# Altium footprint library Jammer.PcbLib: 13 footprints
Each footprint in its own frame and in the unit in brackets; x right, y up, seen from the top. Pads: shape width x height; smd on the part's side, far side on the other; paste and mask are expansions set on the pad; w line width, h text height; cw(c..) or ccw(c..) is an arc to the next point about the centre after c.
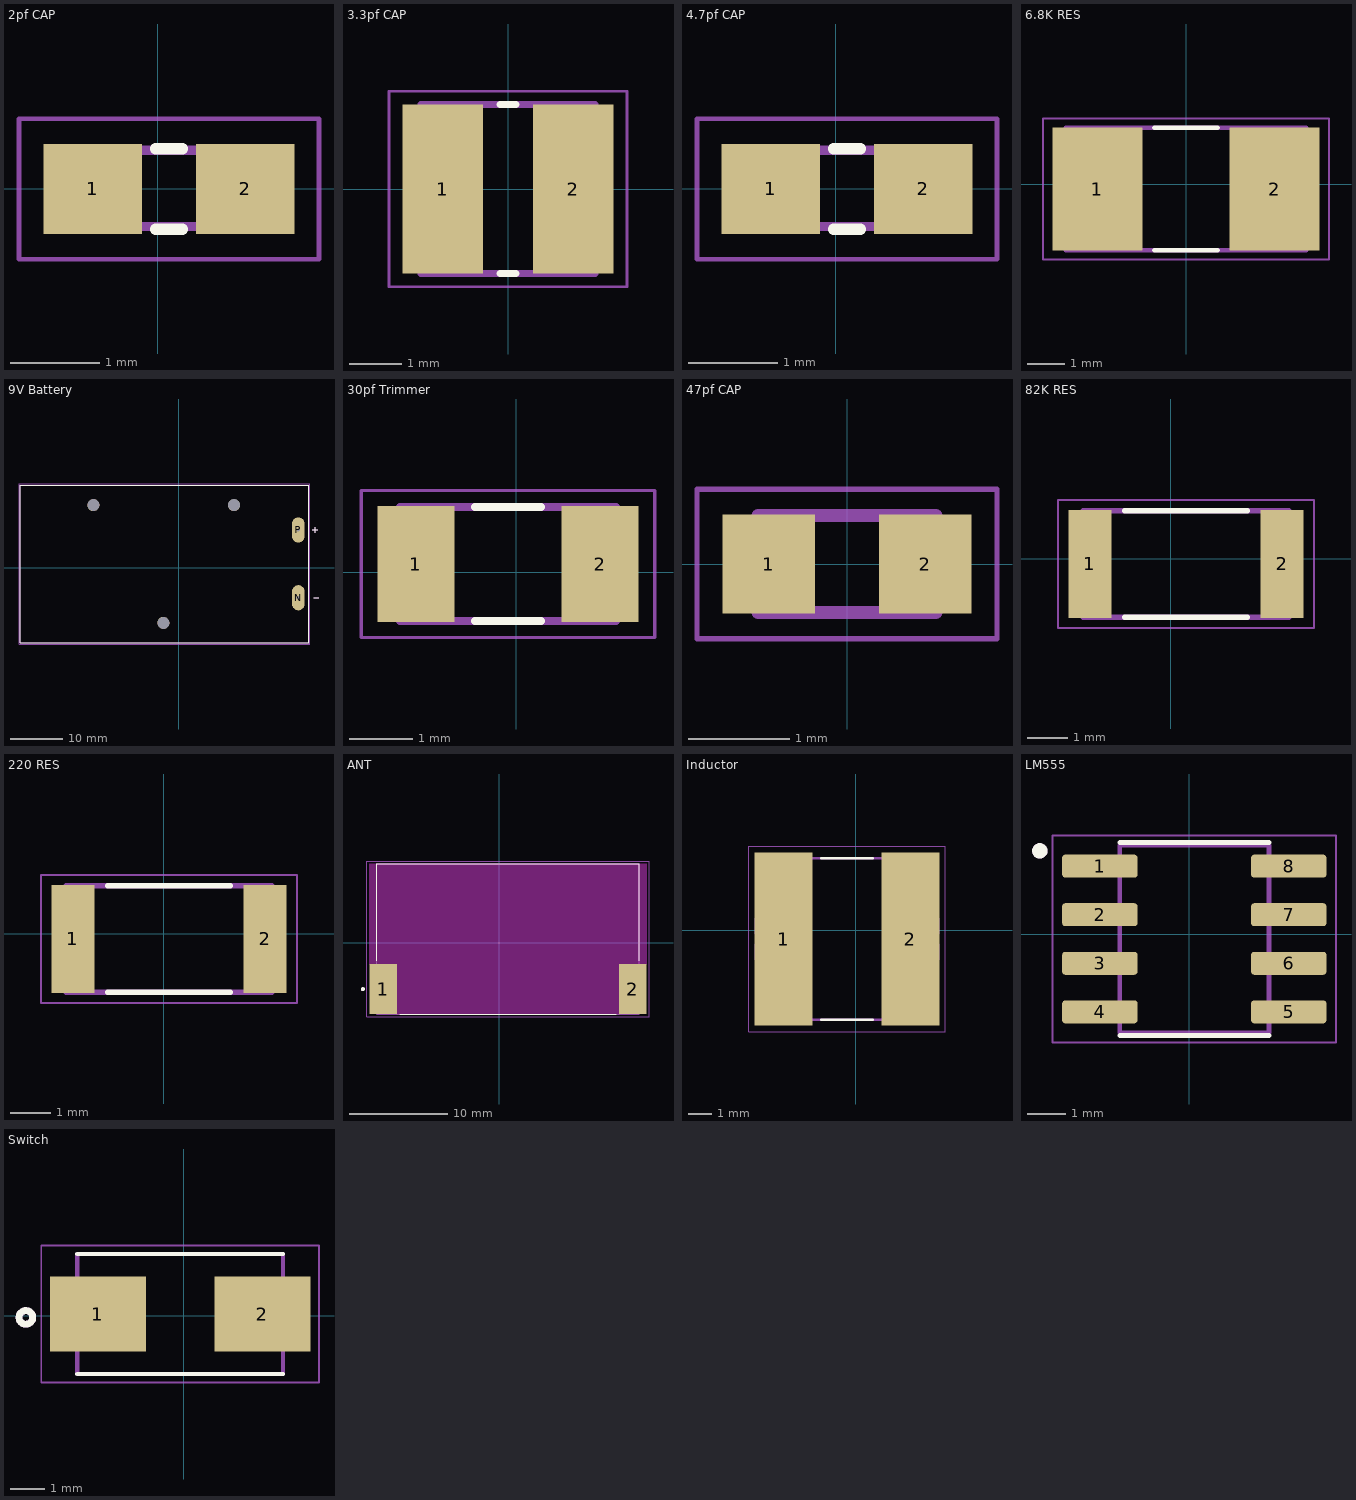
[diagram p0: the footprints below, top view; thin cyan lines are the x and y axes]

## 2pf CAP [mm]
pads (2):
  rect 1.1x1 smd: 1(-0.723,0) 2(0.977,0)
Top Overlay:
  lines w0.127: -0.023,-0.45 0.277,-0.45 ; -0.023,0.45 0.277,0.45
Mechanical 13:
  region: -0.211,-0.47 -0.712,-0.47 -0.712,0.48 -0.211,0.48
  region: 0.957,-0.471 0.458,-0.471 0.458,0.48 0.957,0.48
  lines w0.102: -0.229,-0.419 0.483,-0.419 ; -0.229,0.432 0.483,0.432
Mechanical 15:
  lines w0.051: -1.546,-0.783 1.8,-0.783 1.8,0.783 -1.546,0.783 -1.546,-0.783
3D body "2pf cap.STEP": height 0.79, standoff -0.02, extent -0.673,-0.45 0.927,0.45

## 3.3pf CAP [mm]
pads (2):
  rect 1.53x3.21 smd: 1(-1.236,0) 2(1.236,0)
Top Overlay:
  lines w0.127: -0.15,-1.6 0.15,-1.6 ; -0.15,1.6 0.15,1.6
Mechanical 13:
  lines w0.127: -1.65,-1.6 1.65,-1.6 1.65,1.6 -1.65,1.6 -1.65,-1.6
Mechanical 15:
  lines w0.05: -2.253,-1.854 2.253,-1.854 2.253,1.854 -2.253,1.854 -2.253,-1.854
3D body "3.3pf cap.STEP": height 1.34, standoff -0.01, extent -1.397,-1.4 1.403,1.4

## 4.7pf CAP [mm]
pads (2):
  rect 1.1x1 smd: 1(-0.723,0) 2(0.977,0)
Top Overlay:
  lines w0.127: -0.023,-0.45 0.277,-0.45 ; -0.023,0.45 0.277,0.45
Mechanical 13:
  region: 0.957,-0.471 0.458,-0.471 0.458,0.48 0.957,0.48
  region: -0.211,-0.47 -0.712,-0.47 -0.712,0.48 -0.211,0.48
  lines w0.102: -0.229,-0.419 0.483,-0.419 ; -0.229,0.432 0.483,0.432
Mechanical 15:
  lines w0.051: -1.546,-0.783 -1.546,0.783 1.8,0.783 1.8,-0.783 -1.546,-0.783
3D body "4.7pf cap.STEP": height 0.79, standoff -0.02, extent -0.673,-0.45 0.927,0.45

## 6.8K RES [mm]
pads (2):
  rect 2.44x3.32 smd: 1(-2.39,-0.127) 2(2.39,-0.127)
Top Overlay:
  lines w0.127: -0.85,-1.777 0.85,-1.777 ; -0.85,1.523 0.85,1.523
Mechanical 13:
  lines w0.127: -3.25,-1.777 -3.25,1.523 3.25,1.523 3.25,-1.777 -3.25,-1.777
Mechanical 15:
  lines w0.05: -3.858,-2.035 -3.858,1.781 3.858,1.781 3.858,-2.035 -3.858,-2.035
3D body "6.8k RES.STEP": height 0.77, standoff -0.03, extent -3.15,-1.677 3.15,1.423

## 9V Battery [mil]
pads (5):
  oval 94.88x189.76 hole 26 square: N(900,-225) P(900,285)
  round 90 hole 90 unplated: ""(-642,472) ""(-115,-414) ""(416,472)
Top Overlay:
  lines w5: 1006.55,284.99 1045.92,284.99 ; 1016.39,-226.82 1055.76,-226.82 ; 1026.24,265.31 1026.24,304.68 ; -1192,-564 -1192,622 978,622 978,-564 -1192,-564
Mechanical 13:
  lines w5: 1006.55,284.99 1045.92,284.99 ; 1016.39,-226.82 1055.76,-226.82 ; 1026.24,265.31 1026.24,304.68 ; -1192,-564 -1192,622 978,622 978,-564 -1192,-564
Mechanical 15:
  lines w1.97: -1201.84,-573.84 -1201.84,631.84 987.84,631.84 987.84,-573.84 -1201.84,-573.84
3D body "step_temp.STEP": height 845, standoff -191, extent -1200,-563 970,623

## 30pf Trimmer [mm]
pads (2):
  rect 1.21x1.82 smd: 1(-1.577,0.127) 2(1.323,0.127)
Top Overlay:
  lines w0.127: -0.647,-0.773 0.393,-0.773 ; -0.647,1.027 0.393,1.027
Mechanical 13:
  lines w0.127: -1.827,-0.773 -1.827,1.027 1.573,1.027 1.573,-0.773 -1.827,-0.773
Mechanical 15:
  lines w0.05: -2.435,-1.031 -2.435,1.285 2.181,1.285 2.181,-1.031 -2.435,-1.031
3D body "step_temp.STEP": height 1.3, standoff 0, extent -1.727,-0.673 1.473,0.927

## 47pf CAP [mm]
pads (2):
  rect 0.92x0.98 smd: 1(-0.775,0) 2(0.775,0)
Mechanical 13:
  lines w0.127: -0.88,-0.48 0.88,-0.48 0.88,0.48 -0.88,0.48 -0.88,-0.48
Mechanical 15:
  lines w0.05: -1.485,-0.74 1.485,-0.74 1.485,0.74 -1.485,0.74 -1.485,-0.74
3D body "47pf cap.STEP": height 0.81, standoff 0, extent -0.8,-0.392 0.8,0.508

## 82K RES [mm]
pads (2):
  rect 1.07x2.67 smd: 1(-1.999,-0.127) 2(2.761,-0.127)
Top Overlay:
  lines w0.127: -1.139,-1.447 1.901,-1.447 ; -1.139,1.193 1.901,1.193
Mechanical 13:
  lines w0.127: -2.169,-1.447 -2.169,1.193 2.931,1.193 2.931,-1.447 -2.169,-1.447
Mechanical 15:
  lines w0.05: -2.784,-1.712 -2.784,1.458 3.546,1.458 3.546,-1.712 -2.784,-1.712
3D body "82k RES.STEP": height 1.15, standoff -0.05, extent -2.206,-1.357 2.794,1.143

## 220 RES [mm]
pads (2):
  rect 1.07x2.67 smd: 1(-2.253,-0.127) 2(2.507,-0.127)
Top Overlay:
  lines w0.127: -1.393,-1.447 1.647,-1.447 ; -1.393,1.193 1.647,1.193
Mechanical 13:
  lines w0.127: -2.423,-1.447 2.677,-1.447 2.677,1.193 -2.423,1.193 -2.423,-1.447
Mechanical 15:
  lines w0.05: -3.038,-1.712 3.292,-1.712 3.292,1.458 -3.038,1.458 -3.038,-1.712
3D body "220 Res.STEP": height 1.15, standoff -0.05, extent -2.46,-1.23 2.54,1.27

## ANT [mil]
pads (2):
  rect 110.24x200.79 smd: 1(-465,-185) 2(535,-185)
Top Overlay:
  circle w7.87: c-545.71,-185 r3.94
  lines w5: -490.59,-72.01 -490.59,316.97 560.59,316.97 560.59,-72.01 ; -397.28,-285.39 467.28,-285.39
Keep-Out Layer:
  region: 589.92,-84.41 479.69,-84.41 479.69,-285.59 -409.69,-285.59 -409.69,-84.41 -519.92,-84.41 -519.92,316.97 589.92,316.97
  region: 589.92,-84.41 479.69,-84.41 479.69,-285.59 -409.69,-285.59 -409.69,-84.41 -519.92,-84.41 -519.92,316.97 589.92,316.97
Mechanical 13:
  circle w7.87: c-545.71,-185 r3.94
  lines w5: -490.59,-285.39 -490.59,316.97 560.59,316.97 560.59,-285.39 -490.59,-285.39
Mechanical 15:
  lines w1.97: -529.96,-295.24 -529.96,326.81 599.96,326.81 599.96,-295.24 -529.96,-295.24
3D body "step_temp.STEP": height 630, standoff 0, extent -490.79,-235 560,125

## Inductor [mm]
pads (2):
  rect 2.5x7.5 smd: 1(-3.131,-0.381) 2(2.369,-0.381)
Top Overlay:
  lines w0.127: -1.481,-3.881 0.719,-3.881 ; -1.481,3.119 0.719,3.119
Mechanical 13:
  lines w0.127: -4.277,-0.404 cw(c-1.331,0.169) -1.904,3.115 ; -4.277,-0.358 ccw(c-1.331,-0.931) -1.904,-3.877 ; -1.881,-3.881 1.119,-3.881 ; -1.881,3.119 1.119,3.119 ; 1.142,-3.877 ccw(c0.569,-0.931) 3.515,-0.358 ; 1.142,3.115 cw(c0.569,0.169) 3.515,-0.404
Mechanical 15:
  lines w0.05: -4.631,-4.391 3.869,-4.391 3.869,3.629 -4.631,3.629 -4.631,-4.391
3D body "Inductor.STEP": height 4.91, standoff -0.09, extent -4.122,-3.939 3.614,3.061

## LM555 [mm]
pads (8):
  rrect25% 1.97x0.6 smd: 1(-2.343,1.778) 2(-2.343,0.508) 3(-2.343,-0.762) 4(-2.343,-2.032) 5(2.597,-2.032) 6(2.597,-0.762) 7(2.597,0.508) 8(2.597,1.778)
Top Overlay:
  circle w0.2: c-3.913,2.178 r0.1
  lines w0.127: -1.823,-2.652 2.077,-2.652 ; -1.823,2.398 2.077,2.398
Mechanical 13:
  circle w0.2: c-3.913,2.178 r0.1
  lines w0.127: -1.823,-2.579 -1.823,2.325 2.077,2.325 2.077,-2.579 -1.823,-2.579
Mechanical 15:
  lines w0.05: -3.578,-2.829 -3.578,2.575 3.832,2.575 3.832,-2.829 -3.578,-2.829
3D body "LM555.STEP": height 1.71, standoff -0.04, extent -2.87,-2.578 3.124,2.324

## Switch [mm]
pads (2):
  rect 2.8x2.2 smd: 1(-2.504,0.051) 2(2.296,0.051)
Top Overlay:
  circle w0.2: c-4.604,-0.049 r0.2
  lines w0.127: -3.104,-1.699 2.896,-1.699 ; -3.104,1.801 2.896,1.801
Mechanical 13:
  circle w0.2: c-4.604,-0.049 r0.2
  lines w0.127: -3.104,-1.699 -3.104,1.801 2.896,1.801 2.896,-1.699 -3.104,-1.699
Mechanical 15:
  lines w0.05: -4.154,-1.949 3.946,-1.949 3.946,2.051 -4.154,2.051 -4.154,-1.949
3D body "147873-2.stp": height 4.27, standoff -0.23, extent -3.4,-2.639 3.4,0.861